# Altium footprint library 5034801200.PcbLib: 1 footprints
Each footprint in its own frame and in the unit in brackets; x right, y up, seen from the top. Pads: shape width x height; smd on the part's side, far side on the other; paste and mask are expansions set on the pad; w line width, h text height; cw(c..) or ccw(c..) is an arc to the next point about the centre after c.
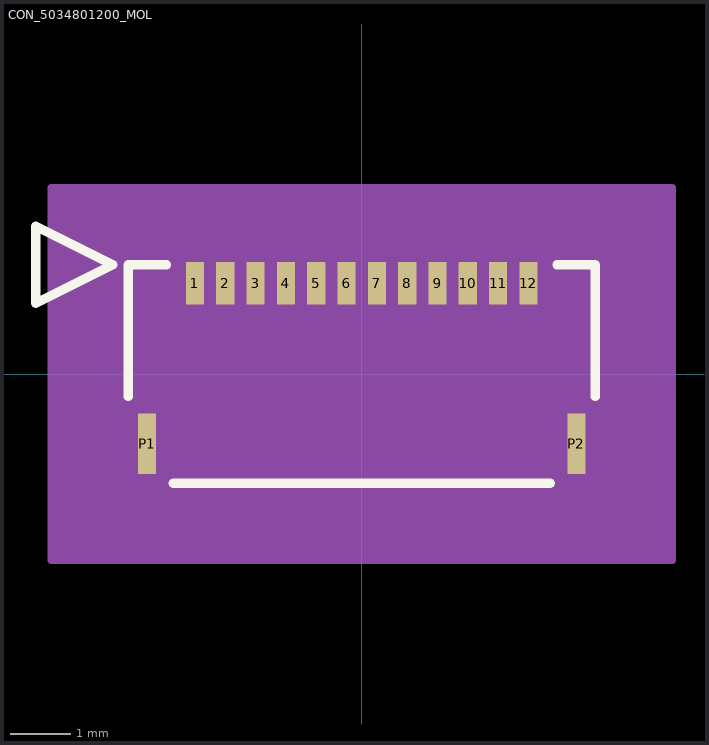
[diagram p0: the footprint, top view; thin cyan lines are the x and y axes]

## CON_5034801200_MOL [mm]
pads (14):
  rect 0.3x0.7 smd paste+0 mask+0.076: 1(-2.75,1.5) 2(-2.25,1.5) 3(-1.75,1.5) 4(-1.25,1.5) 5(-0.75,1.5) 6(-0.25,1.5) 7(0.25,1.5) 8(0.75,1.5) 9(1.25,1.5) 10(1.75,1.5) 11(2.25,1.5) 12(2.75,1.5)
  rect 0.3x1 smd paste+0 mask+0.076: P1(-3.54,-1.15) P2(3.54,-1.15)
Top Overlay:
  lines w0.152: -3.85,-0.373 -3.85,1.8 -3.22,1.8 ; -3.107,-1.8 3.107,-1.8 ; 3.22,1.8 3.85,1.8 3.85,-0.373 ; -5.374,1.165 -5.374,2.435 -4.104,1.8 -5.374,1.165
Mechanical 13:
  lines w0.127: -5.374,1.165 -5.374,2.435 -4.104,1.8 -5.374,1.165 ; -3.85,-1.8 3.85,-1.8 3.85,1.8 -3.85,1.8 -3.85,-1.8
Mechanical 15:
  region: 5.12,3.07 -5.12,3.07 -5.12,-3.07 5.12,-3.07
  lines w0.127: -5.12,-3.07 -5.12,3.07 5.12,3.07 5.12,-3.07 -5.12,-3.07
3D body "5034801200.stp": height 1.85, standoff -0.02, extent -3.85,-1.778 3.85,1.822